# Altium footprint library TPS63060DSCR.PcbLib: 1 footprints
Each footprint in its own frame and in the unit in brackets; x right, y up, seen from the top. Pads: shape width x height; smd on the part's side, far side on the other; paste and mask are expansions set on the pad; w line width, h text height; cw(c..) or ccw(c..) is an arc to the next point about the centre after c.
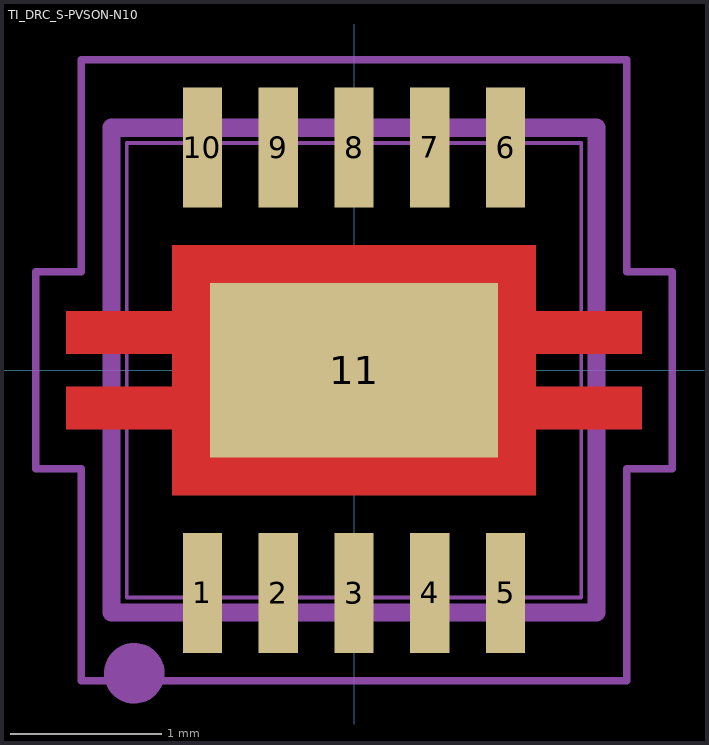
[diagram p0: the footprint, top view; thin cyan lines are the x and y axes]

## TI_DRC_S-PVSON-N10 [mm]
height 1
pads (11):
  rect 0.26x0.79 smd: 1(-1,-1.47) 2(-0.5,-1.47) 3(0,-1.47) 4(0.5,-1.47) 5(1,-1.47) 6(1,1.47) 7(0.5,1.47) 8(0,1.47) 9(-0.5,1.47) 10(-1,1.47)
  rect 1.9x1.15 smd: 11(0,0)
Top Layer:
  region: 1.2,-0.825 -1.2,-0.825 -1.2,-0.39 -1.9,-0.39 -1.9,-0.11 -1.2,-0.11 -1.2,0.11 -1.9,0.11 -1.9,0.39 -1.2,0.39 -1.2,0.825 1.2,0.825 1.2,0.39 1.9,0.39 1.9,0.11 1.2,0.11 1.2,-0.11 1.9,-0.11 1.9,-0.39 1.2,-0.39
3D Bottom:
  lines w0.025: -1.5,-1.5 -1.5,1.5 1.5,1.5 1.5,-1.5 -1.5,-1.5
  lines w0.12: -1.6,-1.6 -1.6,1.6 1.6,1.6 1.6,-1.6 -1.6,-1.6
Courtyard Top:
  circle w0.2: c-1.45,-2 r0.1
  lines w0.12: -1.6,-0.6 -1.6,-1.6 -1.3,-1.6 ; -1.6,0.6 -1.6,1.6 -1.3,1.6 ; 1.3,-1.6 1.6,-1.6 1.6,-0.6 ; 1.3,1.6 1.6,1.6 1.6,0.6
Courtyard Bottom:
  circle w0.05: c0,0 r0.25
  lines w0.05: -0.35,0 0.35,0 ; 0,-0.35 0,0.35 ; -2.1,-0.65 -1.8,-0.65 -1.8,-2.05 1.8,-2.05 1.8,-0.65 2.1,-0.65 2.1,0.65 1.8,0.65 1.8,2.05 -1.8,2.05 -1.8,0.65 -2.1,0.65 -2.1,-0.65